# Altium schematic symbol library SCH - DIODES - LED RGB INDEPENDENT.SCHLIB: 1 symbol
Pins are listed as number, name and electrical type; pins without a type are passive.

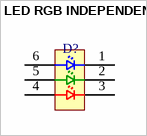
[diagram p0: symbol LED RGB INDEPENDENT]

## LED RGB INDEPENDENT
designator D?
pins: 1 C1, 2 C2, 3 C3, 4 A3, 5 A2, 6 A1